# Altium schematic symbol library 522711279.SchLib: 1 symbol
Pins are listed as number, name and electrical type; pins without a type are passive.

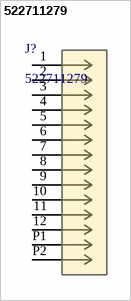
[diagram p0: symbol 522711279]

## 522711279
designator J?
Easy-On FFC/FPC Connector, 1.00mm Pitch, Slider Series, Right-Angle, Bottom Contact, 3.00mm Height, 12 Circuits, Tin-Bismuth Plating; Manufacturer_Name: Molex Connector Corporation; Copyright: Copyright (C) 2025 Ultra Librarian. All rights reserved.; Manufacturer_Part_Number: 522711279; RefDes: RefDes; Type: Type
footprint CON_522711279_MOL
pins: 1, 2, 3, 4, 5, 6, 7, 8, 9, 10, 11, 12, P1, P2